# Altium footprint library FlexCon12.PcbLib: 1 footprints
Each footprint in its own frame and in the unit in brackets; x right, y up, seen from the top. Pads: shape width x height; smd on the part's side, far side on the other; paste and mask are expansions set on the pad; w line width, h text height; cw(c..) or ccw(c..) is an arc to the next point about the centre after c.
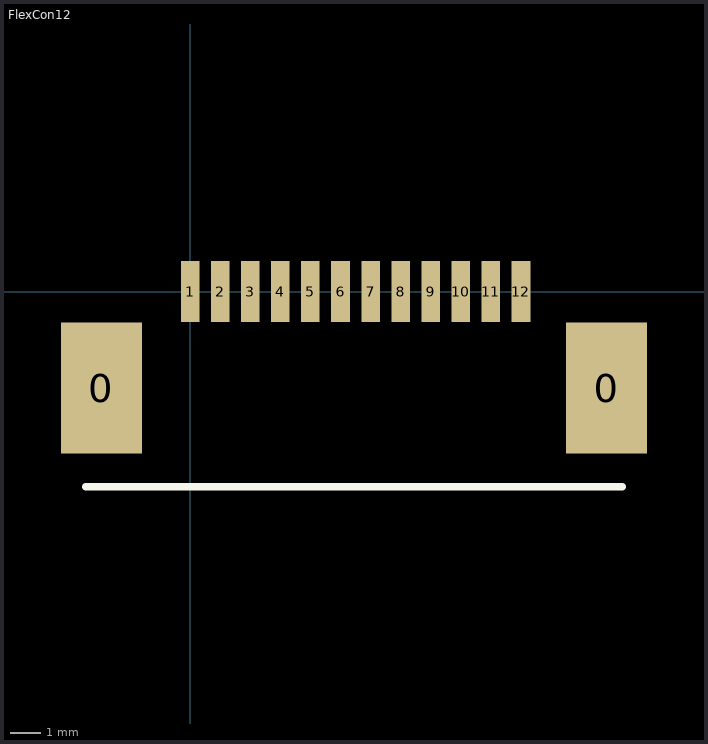
[diagram p0: the footprint, top view; thin cyan lines are the x and y axes]

## FlexCon12 [mil]
pads (14):
  rect 105x170 smd: 0(-115,-125) 0(540,-125)
  rect 24x79 smd: 1(0,0) 2(39,0) 3(78,0) 4(117,0) 5(156,0) 6(195,0) 7(234,0) 8(273,0) 9(312,0) 10(351,0) 11(390,0) 12(429,0)
Top Overlay:
  lines w10: -135,-253 560,-253
3D body: height 99.61, standoff -1.77, extent -179.12,-255.94 605.13,1.93